# Altium footprint library EVQP2_SERIES.PcbLib: 1 footprints
Each footprint in its own frame and in the unit in brackets; x right, y up, seen from the top. Pads: shape width x height; smd on the part's side, far side on the other; paste and mask are expansions set on the pad; w line width, h text height; cw(c..) or ccw(c..) is an arc to the next point about the centre after c.
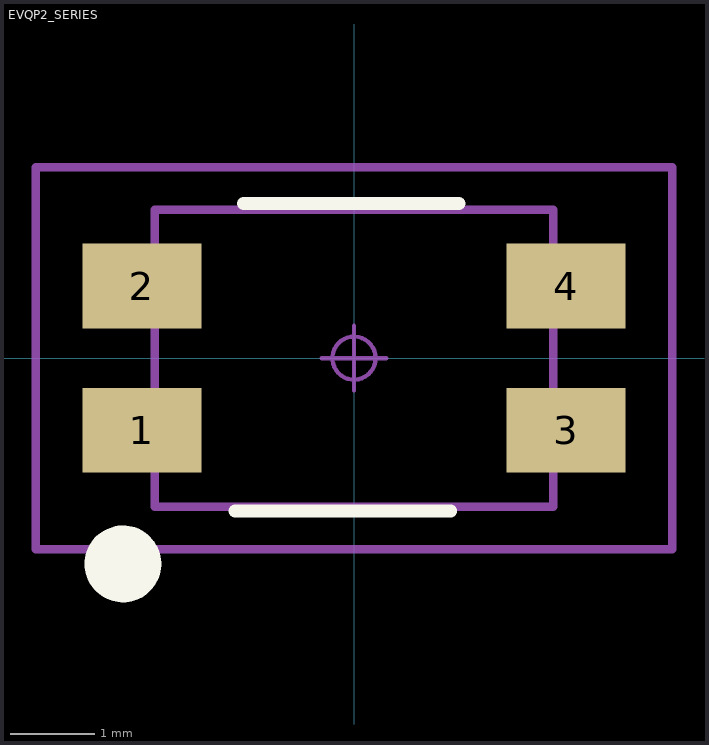
[diagram p0: the footprint, top view; thin cyan lines are the x and y axes]

## EVQP2_SERIES [mm] "EVQP2_SERIES SWITCH 4.70mm x 3.50mm"
height 2.5
pads (4):
  rect 1.4x1 smd: 1(-2.5,-0.85) 2(-2.5,0.85) 3(2.5,-0.85) 4(2.5,0.85)
Top Overlay:
  circle w0.508: c-2.723,-2.425 r0.198
  lines w0.152: -1.4,-1.8 1.14,-1.8 ; -1.3,1.825 1.24,1.825
Mechanical 13:
  lines w0.1: -2.35,-1.75 -2.35,1.75 2.35,1.75 2.35,-1.75 -2.35,-1.75
Mechanical 15:
  circle w0.05: c0,0 r0.254
  lines w0.05: -0.381,0 0.381,0 ; 0,-0.381 0,0.381
  lines w0.1: -3.75,-2.25 3.75,-2.25 3.75,2.25 -3.75,2.25 -3.75,-2.25
3D body "EVQ-P2-0246-02W+P9-HP-02W.STEP": height 2.51, standoff 0.01, extent -2.75,-1.75 2.751,1.75